# Altium schematic symbol library 2199230-5.SchLib: 1 symbol
Pins are listed as number, name and electrical type; pins without a type are passive.

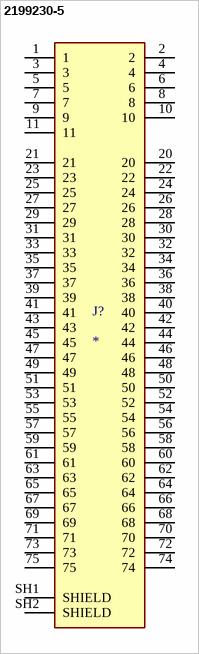
[diagram p0: symbol 2199230-5]

## 2199230-5
designator J?
Conn Card Edge 67 POS 0.5mm Solder RA SMD Embossed T/R; MF: {'manufacturer': u'TE Connectivity'}; MP: 2199230-5; Package: None; Price: None; Value: *; Availability: Unavailable
footprint TE_2199230-5
pins: 1, 2, 3, 4, 5, 6, 7, 8, 9, 10, 11, 20, 21, 22, 23, 24, 25, 26, 27, 28, 29, 30, 31, 32, 33, 34, 35, 36, 37, 38, 39, 40, 41, 42, 43, 44, 45, 46, 47, 48, 49, 50, 51, 52, 53, 54, 55, 56, 57, 58, 59, 60, 61, 62, 63, 64, 65, 66, 67, 68, 69, 70, 71, 72, 73, 74, 75, SH1 SHIELD, SH2 SHIELD